# EAGLE library part 52271-1269 (library Molex_By_element14_Batch_1)
CONNECTOR, FPC, 1.0MM, 12 WAY
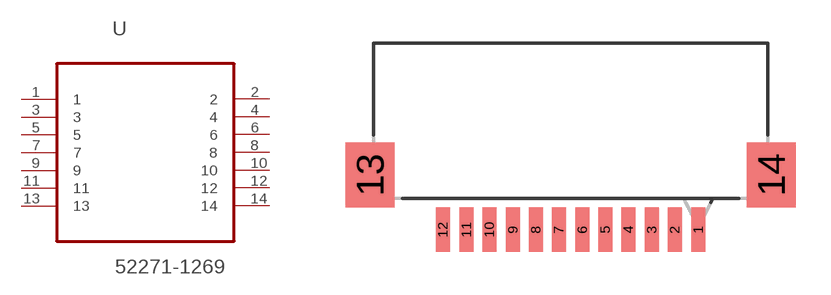
[diagram p12: symbol with the pads of MOLEX_52271-1269; footprint MOLEX_52271-1269]

Designator prefix U

## 52271-1269 (MPN: 52271-1269; OC_FARNELL: -; OC_NEWARK: 56R1674; PACKAGE: CONNECTOR, FPC, 1.0MM, 12 WAY; SUPPLIER: Molex)  [MOLEX_52271-1269]
1  1  pas
2  2  pas
3  3  pas
4  4  pas
5  5  pas
6  6  pas
7  7  pas
8  8  pas
9  9  pas
10  10  pas
11  11  pas
12  12  pas
13  13  pas
14  14  pas

## Footprint MOLEX_52271-1269 (pad centres in mm)
smd 0.61 x 1.905: 1 5.512,4.699; 2 4.496,4.699; 3 3.505,4.699; 4 2.489,4.699; 5 1.499,4.699; 6 0.508,4.699; 7 -0.508,4.699; 8 -1.499,4.699; 9 -2.489,4.699; 10 -3.505,4.699; 11 -4.496,4.699; 12 -5.512,4.699
smd 2.108 x 2.794: 13 -8.661,7.061; 14 8.661,7.061